# Altium schematic symbol library SCH - POWER - LINEAR VREG - TI LMS1587CT-3.3.SchLib: 1 symbol
Pins are listed as number, name and electrical type; pins without a type are passive.

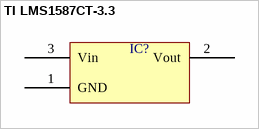
[diagram p0: symbol TI LMS1587CT-3.3]

## TI LMS1587CT-3.3
designator IC?  (value not drawn)
pins: 1 GND, 2 Vout, 3 Vin